# EAGLE library part IMU3000 (library Jim-Sensors-Retired)
Invensense IMU3000 3-axis I2C Programmable Gyroscope 3-axis MEMS digital gyro with programmable ranges from +-250 to +-2000 degrees/sec. In addition, it has a secondary I2C port that interfaces with a digital accelerometer to deliver a complete 6-axis sensor output from its primary I2C port. The fusion output offloads the intensive motion processing computation requirements from the host processor, reducing the need for frequent polling of the motion sensor output and enabling low cost, low power microcontrollers. Datasheet <https://cdn.sparkfun.com/datasheets/Sensors/IMU/RM-IMU-3000A.pdf> SparkFun Products SparkFun Digital IMU Breakout - IMU3000 <https://www.sparkfun.com/products/10251> (SEN-10251) SparkFun IMU Fusion Board - ADXL345 & IMU3000 <https://www.sparkfun.com/products/10252> (SEN-10252)
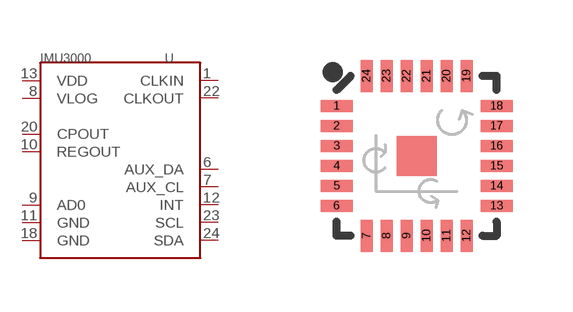
[diagram p8: symbol with the pads of QFN-24; footprint QFN-24]

Designator prefix U

## IMU3000 (PROD_ID: IC-10050)  [QFN-24]
1  CLKIN
6  AUX_DA
7  AUX_CL
8  VLOG
9  AD0
10  REGOUT
11  GND
12  INT
13  VDD
18  GND
20  CPOUT
22  CLKOUT
23  SCL
24  SDA

## Footprint QFN-24 (pad centres in mm)
Datasheet Specifications: Pin Count: Area: Pitch: Devices Using: IMU3000 ITG-3200
smd 0.8 x 0.3: 1 -2,1.25; 2 -2,0.75; 3 -2,0.25; 4 -2,-0.25; 5 -2,-0.75; 6 -2,-1.25; 13 2,-1.25; 14 2,-0.75; 15 2,-0.25; 16 2,0.25; 17 2,0.75; 18 2,1.25
smd 0.3 x 0.8: 7 -1.25,-2; 8 -0.75,-2; 9 -0.25,-2; 10 0.25,-2; 11 0.75,-2; 12 1.25,-2; 19 1.25,2; 20 0.75,2; 21 0.25,2; 22 -0.25,2; 23 -0.75,2; 24 -1.25,2